# Altium integrated library ON Semi SIDACs.IntLib: 12 symbols
Pins are listed as number, name and electrical type; pins without a type are passive.

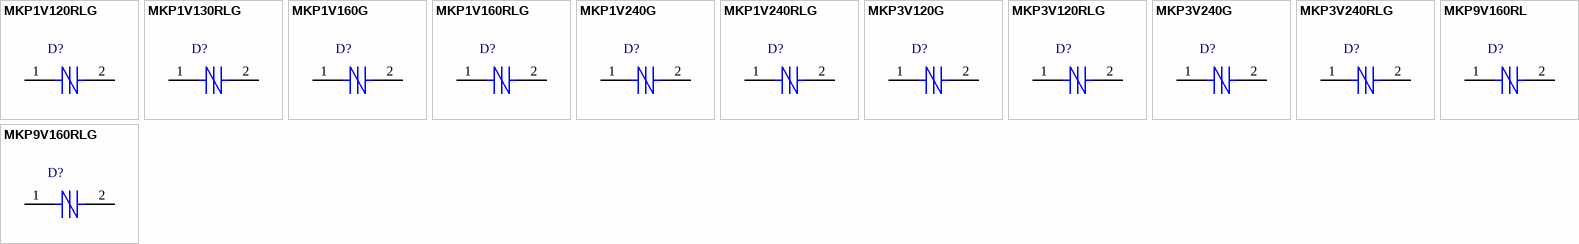
[diagram p0: symbols MKP1V120RLG to MKP9V160RLG]

## MKP1V120RLG
designator D?
Sidac High Voltage, Bidirectional Trigger, 110 to 130 V, 2-Pin Axial_Lead, Pb-Free, Tape and Reel; Manufacturer: On Semiconductor; PartNumber: MKP1V120RLG; IT(RMS) Max (A): 0.9; V(BO) Max (V): 130; V(BO) Min (V): 110; DatasheetVersion: Rev. 12; PackageVersion: Rev. U, 02/2005; PackageReference: AXIAL_LEAD-2-59-10; PackageDescription: 2-Pin, Axial Lead, Diameter 2.35 mm; Supplier 1: Digi-Key; Supplier Part Number 1: MKP1V120RLGOSTR-ND; Supplier 2: Digi-Key; Supplier Part Number 2: MKP1V120RLGOSCT-ND; Supplier 3: Newark; Supplier Part Number 3: 88H4768; Supplier 4: Mouser; Supplier Part Number 4: 863-MKP1V120RLG; Packing: Tape and Reel; RoHS: Pb-Free; Mounting Technology: Through Hole; ComponentLink1Description: Manufacturer URL; ComponentLink1URL: http://www.onsemi.com/; ComponentLink2Description: Datasheet; ComponentLink2URL: http://www.onsemi.cn/pub_link/Collateral/MKP1V120-D.PDF; ComponentLink3Description: Package Specification; ComponentLink3URL: http://www.onsemi.cn/pub_link/Collateral/59-10.PDF
footprint ONSC-AXIAL_LEAD-2-59-10_P (AXIAL, 2-Leads, Diameter 2.35mm)
pins: 1 MT1, 2 MT2

## MKP1V130RLG
designator D?
Sidac High Voltage, Bidirectional Trigger, 120 to 140 V, 2-Pin Axial_Lead, Pb-Free, Tape and Reel; Manufacturer: On Semiconductor; PartNumber: MKP1V130RLG; IT(RMS) Max (A): 0.9; V(BO) Max (V): 140; V(BO) Min (V): 120; DatasheetVersion: Rev. 12; PackageVersion: Rev. U, 02/2005; PackageReference: AXIAL_LEAD-2-59-10; PackageDescription: 2-Pin, Axial Lead, Diameter 2.35 mm; Supplier 1: Digi-Key; Supplier Part Number 1: MKP1V130RLGOSTR-ND; Supplier 2: Digi-Key; Supplier Part Number 2: MKP1V130RLGOSCT-ND; Supplier 3: Newark; Supplier Part Number 3: 42K1317; Supplier 4: Mouser; Supplier Part Number 4: 863-MKP1V130RLG; Packing: Tape and Reel; RoHS: Pb-Free; Mounting Technology: Through Hole; ComponentLink1Description: Manufacturer URL; ComponentLink1URL: http://www.onsemi.com/; ComponentLink2Description: Datasheet; ComponentLink2URL: http://www.onsemi.cn/pub_link/Collateral/MKP1V120-D.PDF; ComponentLink3Description: Package Specification; ComponentLink3URL: http://www.onsemi.cn/pub_link/Collateral/59-10.PDF
footprint ONSC-AXIAL_LEAD-2-59-10_P (AXIAL, 2-Leads, Diameter 2.35mm)
pins: 1 MT1, 2 MT2

## MKP1V160G
designator D?
Sidac High Voltage, Bidirectional Trigger, 150 to 170 V, 2-Pin Axial_Lead, Pb-Free, Bulk Box; Manufacturer: On Semiconductor; PartNumber: MKP1V160G; IT(RMS) Max (A): 0.9; V(BO) Max (V): 170; V(BO) Min (V): 150; DatasheetVersion: Rev. 12; PackageVersion: Rev. U, 02/2005; PackageReference: AXIAL_LEAD-2-59-10; PackageDescription: 2-Pin, Axial Lead, Diameter 2.35 mm; Supplier 1: Digi-Key; Supplier Part Number 1: MKP1V160G-ND; Supplier 2: Newark; Supplier Part Number 2: 42K1318; Supplier 3: Mouser; Supplier Part Number 3: 863-MKP1V160G; Packing: Bulk Box; RoHS: Pb-Free; Mounting Technology: Through Hole; ComponentLink1Description: Manufacturer URL; ComponentLink1URL: http://www.onsemi.com/; ComponentLink2Description: Datasheet; ComponentLink2URL: http://www.onsemi.cn/pub_link/Collateral/MKP1V120-D.PDF; ComponentLink3Description: Package Specification; ComponentLink3URL: http://www.onsemi.cn/pub_link/Collateral/59-10.PDF
footprint ONSC-AXIAL_LEAD-2-59-10_P (AXIAL, 2-Leads, Diameter 2.35mm)
pins: 1 MT1, 2 MT2

## MKP1V160RLG
designator D?
Sidac High Voltage, Bidirectional Trigger, 150 to 170 V, 2-Pin Axial_Lead, Pb-Free, Tape and Reel; Manufacturer: On Semiconductor; PartNumber: MKP1V160RLG; IT(RMS) Max (A): 0.9; V(BO) Max (V): 170; V(BO) Min (V): 150; DatasheetVersion: Rev. 12; PackageVersion: Rev. U, 02/2005; PackageReference: AXIAL_LEAD-2-59-10; PackageDescription: 2-Pin, Axial Lead, Diameter 2.35 mm; Supplier 1: Digi-Key; Supplier Part Number 1: MKP1V160RLGOSTR-ND; Supplier 2: Digi-Key; Supplier Part Number 2: MKP1V160RLGOSCT-ND; Supplier 3: Newark; Supplier Part Number 3: 42K1319; Supplier 4: Mouser; Supplier Part Number 4: 863-MKP1V160RLG; Packing: Tape and Reel; RoHS: Pb-Free; Mounting Technology: Through Hole; ComponentLink1Description: Manufacturer URL; ComponentLink1URL: http://www.onsemi.com/; ComponentLink2Description: Datasheet; ComponentLink2URL: http://www.onsemi.cn/pub_link/Collateral/MKP1V120-D.PDF; ComponentLink3Description: Package Specification; ComponentLink3URL: http://www.onsemi.cn/pub_link/Collateral/59-10.PDF
footprint ONSC-AXIAL_LEAD-2-59-10_P (AXIAL, 2-Leads, Diameter 2.35mm)
pins: 1 MT1, 2 MT2

## MKP1V240G
designator D?
Sidac High Voltage, Bidirectional Trigger, 220 to 250 V, 2-Pin Axial_Lead, Pb-Free, Bulk Box; Manufacturer: On Semiconductor; PartNumber: MKP1V240G; IT(RMS) Max (A): 0.9; V(BO) Max (V): 250; V(BO) Min (V): 220; DatasheetVersion: Rev. 12; PackageVersion: Rev. U, 02/2005; PackageReference: AXIAL_LEAD-2-59-10; PackageDescription: 2-Pin, Axial Lead, Diameter 2.35 mm; Supplier 1: Digi-Key; Supplier Part Number 1: MKP1V240G-ND; Supplier 2: Newark; Supplier Part Number 2: 42K1320; Supplier 3: Mouser; Supplier Part Number 3: 863-MKP1V240G; Packing: Bulk Box; RoHS: Pb-Free; Mounting Technology: Through Hole; ComponentLink1Description: Manufacturer URL; ComponentLink1URL: http://www.onsemi.com/; ComponentLink2Description: Datasheet; ComponentLink2URL: http://www.onsemi.cn/pub_link/Collateral/MKP1V120-D.PDF; ComponentLink3Description: Package Specification; ComponentLink3URL: http://www.onsemi.cn/pub_link/Collateral/59-10.PDF
footprint ONSC-AXIAL_LEAD-2-59-10_P (AXIAL, 2-Leads, Diameter 2.35mm)
pins: 1 MT1, 2 MT2

## MKP1V240RLG
designator D?
Sidac High Voltage, Bidirectional Trigger, 220 to 250 V, 2-Pin Axial_Lead, Pb-Free, Tape and Reel; Manufacturer: On Semiconductor; PartNumber: MKP1V240RLG; IT(RMS) Max (A): 0.9; V(BO) Max (V): 250; V(BO) Min (V): 220; DatasheetVersion: Rev. 12; PackageVersion: Rev. U, 02/2005; PackageReference: AXIAL_LEAD-2-59-10; PackageDescription: 2-Pin, Axial Lead, Diameter 2.35 mm; Supplier 1: Digi-Key; Supplier Part Number 1: MKP1V240RLGOSTR-ND; Supplier 2: Digi-Key; Supplier Part Number 2: MKP1V240RLGOSCT-ND; Supplier 3: Mouser; Supplier Part Number 3: 863-MKP1V240RLG; Packing: Tape and Reel; RoHS: Pb-Free; Mounting Technology: Through Hole; ComponentLink1Description: Manufacturer URL; ComponentLink1URL: http://www.onsemi.com/; ComponentLink2Description: Datasheet; ComponentLink2URL: http://www.onsemi.cn/pub_link/Collateral/MKP1V120-D.PDF; ComponentLink3Description: Package Specification; ComponentLink3URL: http://www.onsemi.cn/pub_link/Collateral/59-10.PDF
footprint ONSC-AXIAL_LEAD-2-59-10_P (AXIAL, 2-Leads, Diameter 2.35mm)
pins: 1 MT1, 2 MT2

## MKP3V120G
designator D?
Sidac High Voltage, Bidirectional Trigger, 110 to 130 V, 2-Pin Axial_Lead, Pb-Free, Bulk Box; Manufacturer: On Semiconductor; PartNumber: MKP3V120G; IT(RMS) Max (A): 1; V(BO) Max (V): 130; V(BO) Min (V): 110; DatasheetVersion: Rev. 6; PackageVersion: Rev. G, 06/2000; PackageReference: AXIAL_LEAD-2-267-03; PackageDescription: 2-Pin, Axial Lead, Diameter 5.08 mm; Supplier 1: Digi-Key; Supplier Part Number 1: MKP3V120G-ND; Supplier 2: Mouser; Supplier Part Number 2: 863-MKP3V120G; Packing: Bulk Box; RoHS: Pb-Free; Mounting Technology: Through Hole; ComponentLink1Description: Manufacturer URL; ComponentLink1URL: http://www.onsemi.com/; ComponentLink2Description: Datasheet; ComponentLink2URL: http://www.onsemi.cn/pub_link/Collateral/MKP3V120-D.PDF; ComponentLink3Description: Package Specification; ComponentLink3URL: http://www.onsemi.cn/pub_link/Collateral/267-03.PDF
footprint ONSC-AXIAL_LEAD-2-267-03 (AXIAL, 2-Leads, Diameter 5.08mm)
pins: 1 MT1, 2 MT2

## MKP3V120RLG
designator D?
Sidac High Voltage, Bidirectional Trigger, 110 to 130 V, 2-Pin Axial_Lead, Pb-Free, Tape and Reel; Manufacturer: On Semiconductor; PartNumber: MKP3V120RLG; IT(RMS) Max (A): 1; V(BO) Max (V): 130; V(BO) Min (V): 110; DatasheetVersion: Rev. 6; PackageVersion: Rev. G, 06/2000; PackageReference: AXIAL_LEAD-2-267-03; PackageDescription: 2-Pin, Axial Lead, Diameter 5.08 mm; Supplier 1: Digi-Key; Supplier Part Number 1: MKP3V120RLGOSTR-ND; Supplier 2: Digi-Key; Supplier Part Number 2: MKP3V120RLGOSCT-ND; Supplier 3: Mouser; Supplier Part Number 3: 863-MKP3V120RLG; Packing: Tape and Reel; RoHS: Pb-Free; Mounting Technology: Through Hole; ComponentLink1Description: Manufacturer URL; ComponentLink1URL: http://www.onsemi.com/; ComponentLink2Description: Datasheet; ComponentLink2URL: http://www.onsemi.cn/pub_link/Collateral/MKP3V120-D.PDF; ComponentLink3Description: Package Specification; ComponentLink3URL: http://www.onsemi.cn/pub_link/Collateral/267-03.PDF
footprint ONSC-AXIAL_LEAD-2-267-03 (AXIAL, 2-Leads, Diameter 5.08mm)
pins: 1 MT1, 2 MT2

## MKP3V240G
designator D?
Sidac High Voltage, Bidirectional Trigger, 220 to 250 V, 2-Pin Axial_Lead, Pb-Free, Bulk Box; Manufacturer: On Semiconductor; PartNumber: MKP3V240G; IT(RMS) Max (A): 1; V(BO) Max (V): 250; V(BO) Min (V): 220; DatasheetVersion: Rev. 6; PackageVersion: Rev. G, 06/2000; PackageReference: AXIAL_LEAD-2-267-03; PackageDescription: 2-Pin, Axial Lead, Diameter 5.08 mm; Supplier 1: Digi-Key; Supplier Part Number 1: MKP3V240GOS-ND; Supplier 2: Newark; Supplier Part Number 2: 42K1322; Supplier 3: Mouser; Supplier Part Number 3: 863-MKP3V240G; Packing: Bulk Box; RoHS: Pb-Free; Mounting Technology: Through Hole; ComponentLink1Description: Manufacturer URL; ComponentLink1URL: http://www.onsemi.com/; ComponentLink2Description: Datasheet; ComponentLink2URL: http://www.onsemi.cn/pub_link/Collateral/MKP3V120-D.PDF; ComponentLink3Description: Package Specification; ComponentLink3URL: http://www.onsemi.cn/pub_link/Collateral/267-03.PDF
footprint ONSC-AXIAL_LEAD-2-267-03 (AXIAL, 2-Leads, Diameter 5.08mm)
pins: 1 MT1, 2 MT2

## MKP3V240RLG
designator D?
Sidac High Voltage, Bidirectional Trigger, 220 to 250 V, 2-Pin Axial_Lead, Pb-Free, Tape and Reel; Manufacturer: On Semiconductor; PartNumber: MKP3V240RLG; IT(RMS) Max (A): 1; V(BO) Max (V): 250; V(BO) Min (V): 220; DatasheetVersion: Rev. 6; PackageVersion: Rev. G, 06/2000; PackageReference: AXIAL_LEAD-2-267-03; PackageDescription: 2-Pin, Axial Lead, Diameter 5.08 mm; Supplier 1: Digi-Key; Supplier Part Number 1: MKP3V240RLGOSTR-ND; Supplier 2: Digi-Key; Supplier Part Number 2: MKP3V240RLGOSCT-ND; Supplier 3: Newark; Supplier Part Number 3: 42K1323; Supplier 4: Mouser; Supplier Part Number 4: 863-MKP3V240RLG; Packing: Tape and Reel; RoHS: Pb-Free; Mounting Technology: Through Hole; ComponentLink1Description: Manufacturer URL; ComponentLink1URL: http://www.onsemi.com/; ComponentLink2Description: Datasheet; ComponentLink2URL: http://www.onsemi.cn/pub_link/Collateral/MKP3V120-D.PDF; ComponentLink3Description: Package Specification; ComponentLink3URL: http://www.onsemi.cn/pub_link/Collateral/267-03.PDF
footprint ONSC-AXIAL_LEAD-2-267-03 (AXIAL, 2-Leads, Diameter 5.08mm)
pins: 1 MT1, 2 MT2

## MKP9V160RL
designator D?
Sidac High Voltage, Bidirectional Trigger, 150 to 170 V, 2-Pin Axial_Lead, Pb-Free, Tape and Reel; Manufacturer: On Semiconductor; PartNumber: MKP9V160RL; IT(RMS) Max (A): 0.9; V(BO) Max (V): 170; V(BO) Min (V): 150; DatasheetVersion: Rev. 1; PackageVersion: Rev. U, 02/2005; PackageReference: AXIAL_LEAD-2-59-10; PackageDescription: 2-Pin, Axial Lead, Diameter 2.35 mm; Supplier 1: Digi-Key; Supplier Part Number 1: MKP9V160RL-ND; Supplier 2: Mouser; Supplier Part Number 2: 863-MKP9V160RL; Packing: Tape and Reel; RoHS: Pb-Free; Mounting Technology: Through Hole; ComponentLink1Description: Manufacturer URL; ComponentLink1URL: http://www.onsemi.com/; ComponentLink2Description: Datasheet; ComponentLink2URL: http://www.onsemi.cn/pub_link/Collateral/MKP9V160-D.PDF; ComponentLink3Description: Package Specification; ComponentLink3URL: http://www.onsemi.cn/pub_link/Collateral/59-10.PDF
footprint ONSC-AXIAL_LEAD-2-59-10_P (AXIAL, 2-Leads, Diameter 2.35mm)
pins: 1 MT1, 2 MT2

## MKP9V160RLG
designator D?
Sidac High Voltage, Bidirectional Trigger, 150 to 170 V, 2-Pin Axial_Lead, Pb-Free, Tape and Reel; Manufacturer: On Semiconductor; PartNumber: MKP9V160RLG; IT(RMS) Max (A): 0.9; V(BO) Max (V): 170; V(BO) Min (V): 150; DatasheetVersion: Rev. 1; PackageVersion: Rev. U, 02/2005; PackageReference: AXIAL_LEAD-2-59-10; PackageDescription: 2-Pin, Axial Lead, Diameter 2.35 mm; Supplier 1: Digi-Key; Supplier Part Number 1: MKP9V160RLGOSTR-ND; Supplier 2: Digi-Key; Supplier Part Number 2: MKP9V160RLGOSCT-ND; Supplier 3: Mouser; Supplier Part Number 3: 863-MKP9V160RLG; Packing: Tape and Reel; RoHS: Pb-Free; Mounting Technology: Through Hole; ComponentLink1Description: Manufacturer URL; ComponentLink1URL: http://www.onsemi.com/; ComponentLink2Description: Datasheet; ComponentLink2URL: http://www.onsemi.cn/pub_link/Collateral/MKP9V160-D.PDF; ComponentLink3Description: Package Specification; ComponentLink3URL: http://www.onsemi.cn/pub_link/Collateral/59-10.PDF
footprint ONSC-AXIAL_LEAD-2-59-10_P (AXIAL, 2-Leads, Diameter 2.35mm)
pins: 1 MT1, 2 MT2